# Altium footprint library Y 压敏电阻.PcbLib: 7 footprints
Each footprint in its own frame and in the unit in brackets; x right, y up, seen from the top. Pads: shape width x height; smd on the part's side, far side on the other; paste and mask are expansions set on the pad; w line width, h text height; cw(c..) or ccw(c..) is an arc to the next point about the centre after c.
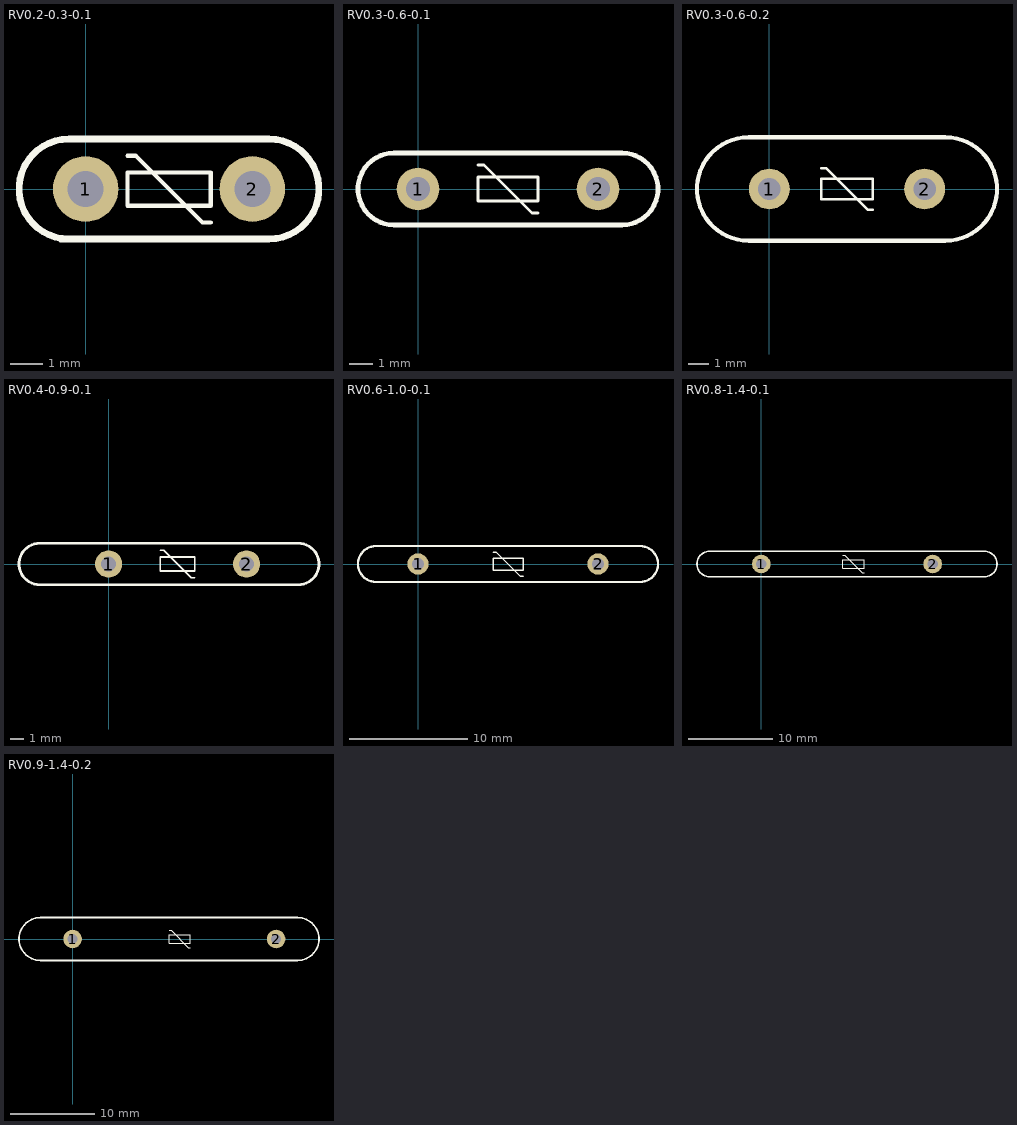
[diagram p0: the footprints below, top view; thin cyan lines are the x and y axes]

## RV0.2-0.3-0.1 [mm] "适用于压敏电阻间距200mil，宽度300mil，厚度120mil"
pads (2):
  round 2 hole 1.1: 1(0,0) 2(5.08,0)
Top Overlay:
  lines w0.127: 1.27,1.016 1.524,1.016 3.556,-1.016 3.81,-1.016 ; 1.27,-0.508 3.81,-0.508 3.81,0.508 1.27,0.508 1.27,-0.508
  lines w0.203: -0.762,-1.524 5.588,-1.524 ccw(c5.588,0) 5.588,1.524 -0.508,1.524 ccw(c-0.508,0) -0.508,-1.524

## RV0.3-0.6-0.1 [mm] "适用于压敏电阻间距300mil，宽度600mil，厚度120mil"
pads (2):
  round 1.8 hole 1: 1(0,0) 2(7.62,0)
Top Overlay:
  lines w0.127: 2.54,1.016 2.794,1.016 4.826,-1.016 5.08,-1.016 ; 2.54,-0.508 2.54,0.508 5.08,0.508 5.08,-0.508 2.54,-0.508
  lines w0.203: -1.016,-1.524 cw(c-1.016,0) -1.016,1.524 8.636,1.524 cw(c8.636,0) 8.636,-1.524 -1.016,-1.524

## RV0.3-0.6-0.2 [mm] "适用于压敏电阻间距300mil，宽度600mil，厚度200mil"
pads (2):
  round 2 hole 1.1: 1(0,0) 2(7.62,0)
Top Overlay:
  lines w0.127: 2.54,1.016 2.794,1.016 4.826,-1.016 5.08,-1.016 ; 2.54,-0.508 5.08,-0.508 5.08,0.508 2.54,0.508 2.54,-0.508
  lines w0.203: -1.016,-2.54 cw(c-1.016,0) -1.016,2.54 8.636,2.54 cw(c8.636,0) 8.636,-2.54 -1.016,-2.54

## RV0.4-0.9-0.1 [mm] "适用于压敏电阻间距400mil，宽度900mil，厚度120mil"
pads (2):
  round 2 hole 1.1: 1(0,0) 2(10.16,0)
Top Overlay:
  lines w0.127: 3.81,1.016 4.064,1.016 6.096,-1.016 6.35,-1.016 ; 3.81,-0.508 3.81,0.508 6.35,0.508 6.35,-0.508 3.81,-0.508
  lines w0.203: -5.08,-1.524 cw(c-5.08,0) -5.08,1.524 13.97,1.524 cw(c13.97,0) 13.97,-1.524 -5.08,-1.524

## RV0.6-1.0-0.1 [mm] "适用于压敏电阻间距600mil，宽度1000mil，厚度120mil"
pads (2):
  round 1.8 hole 1: 1(0,0) 2(15.24,0)
Top Overlay:
  lines w0.127: 6.35,1.016 6.604,1.016 8.636,-1.016 8.89,-1.016 ; 6.35,-0.508 8.89,-0.508 8.89,0.508 6.35,0.508 6.35,-0.508
  lines w0.203: -3.556,-1.524 cw(c-3.556,0) -3.556,1.524 18.796,1.524 cw(c18.796,0) 18.796,-1.524 -3.556,-1.524

## RV0.8-1.4-0.1 [mm] "适用于压敏电阻间距800mil，宽度1400mil，厚度120mil"
pads (2):
  round 2.2 hole 1.2: 1(0,0) 2(20.32,0)
Top Overlay:
  lines w0.127: 9.652,1.016 9.906,1.016 11.938,-1.016 12.192,-1.016 ; 9.652,-0.508 12.192,-0.508 12.192,0.508 9.652,0.508 9.652,-0.508
  lines w0.203: -6.096,-1.524 cw(c-6.096,0) -6.096,1.524 26.416,1.524 cw(c26.416,0) 26.416,-1.524 -6.096,-1.524

## RV0.9-1.4-0.2 [mm] "适用于压敏电阻间距950mil，宽度1400mil，厚度200mil"
pads (2):
  round 2.2 hole 1.2: 1(0,0) 2(24.13,0)
Top Overlay:
  lines w0.127: 11.43,1.016 11.684,1.016 13.716,-1.016 13.97,-1.016 ; 11.43,-0.508 11.43,0.508 13.97,0.508 13.97,-0.508 11.43,-0.508
  lines w0.203: -3.81,-2.54 cw(c-3.81,0) -3.81,2.54 26.67,2.54 cw(c26.67,0) 26.67,-2.54 -3.81,-2.54